# EAGLE library part OPENS_POWER_7.1 (library eDNA)
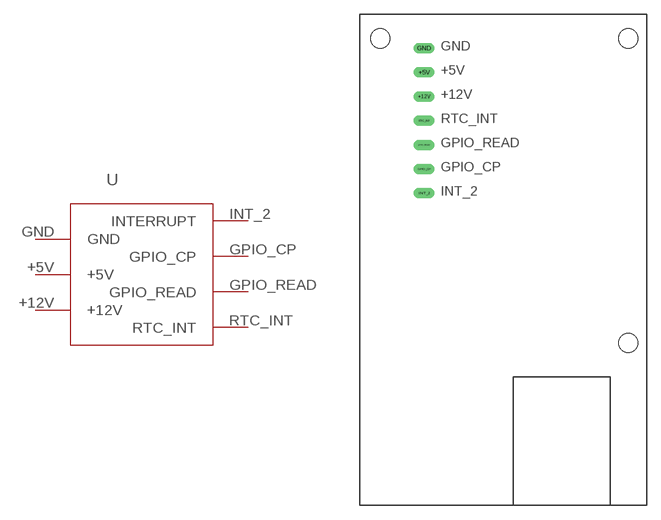
[diagram p3: symbol with the pads of OPENS_POWER_7.1; footprint OPENS_POWER_7.1]

Designator prefix -

## OPENS_POWER_7.1  [OPENS_POWER_7.1]
+5V  +5V
+12V  +12V
GND  GND
GPIO_CP  GPIO_CP
GPIO_READ  GPIO_READ
INT_2  INTERRUPT
RTC_INT  RTC_INT

## Footprint OPENS_POWER_7.1 (pad centres in mm)
drill 0.6 long: +5V 4.6,-3.56; +12V 4.6,-6.1; GND 4.6,-1.02; GPIO_CP 4.6,-13.72; GPIO_READ 4.6,-11.18; INT_2 4.6,-16.26; RTC_INT 4.6,-8.64
hole 2 at 0,0
hole 2 at 26,0
hole 2 at 26,-32